# EAGLE library part ISO7741 (library Harrington-ICs v130)
Quad Channel Digital Isolation Texas Instruments - 3 Inputs, 1 Output - ±1500V CDM - ±6000V HBM - 2.25-5.5V VCC
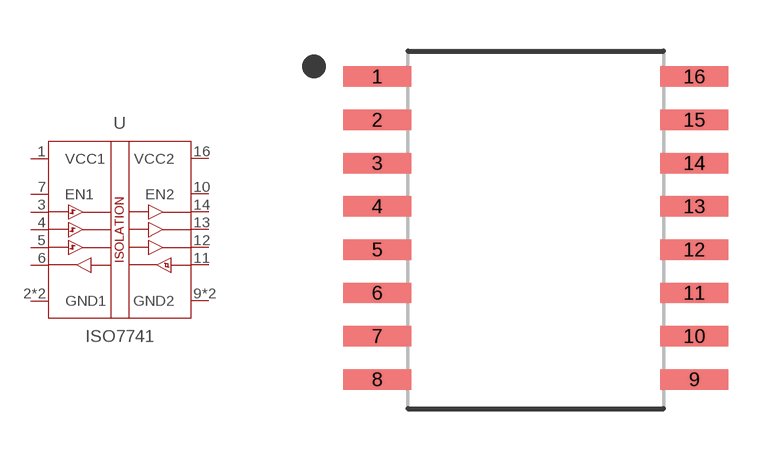
[diagram p16: symbol with the pads of SOIC-16; footprint SOIC-16]

Designator prefix U

## ISO7741  [SOIC-16]
1  VCC1  pwr
2  GND1  pwr
3  INA  in
4  INB  in
5  INC  in
6  OUTD  out
7  EN1  in
8  GND1  pwr
9  GND2  pwr
10  EN2  in
11  IND  in
12  OUTC  out
13  OUTB  out
14  OUTA  out
15  GND2  pwr
16  VCC2  pwr

## Footprint SOIC-16 (pad centres in mm)
smd 2 x 0.6: 1 -4.65,4.5; 2 -4.65,3.23; 3 -4.65,1.96; 4 -4.65,0.69; 5 -4.65,-0.58; 6 -4.65,-1.85; 7 -4.65,-3.12; 8 -4.65,-4.39; 9 4.65,-4.39; 10 4.65,-3.12; 11 4.65,-1.85; 12 4.65,-0.58; 13 4.65,0.69; 14 4.65,1.96; 15 4.65,3.23; 16 4.65,4.5